# Altium footprint library PCB - SWITCHES - SPVS320100.PCBLIB: 1 footprints
Each footprint in its own frame and in the unit in brackets; x right, y up, seen from the top. Pads: shape width x height; smd on the part's side, far side on the other; paste and mask are expansions set on the pad; w line width, h text height; cw(c..) or ccw(c..) is an arc to the next point about the centre after c.
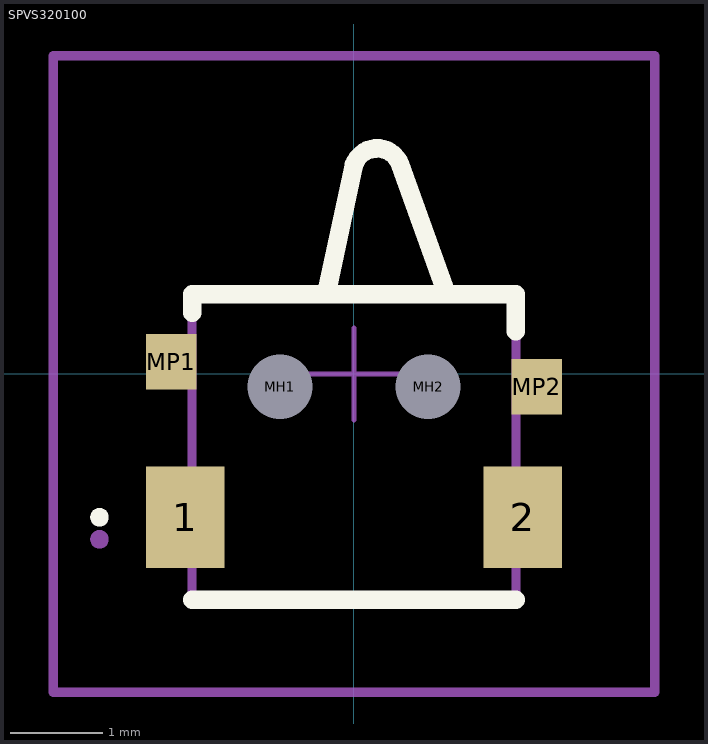
[diagram p0: the footprint, top view; thin cyan lines are the x and y axes]

## SPVS320100 [mm]
pads (6):
  rect 0.85x1.1 smd: 1(-1.825,-1.548) 2(1.825,-1.548)
  round 0.35 hole 0.7 unplated: MH1(-0.8,-0.138) MH2(0.8,-0.138)
  rect 0.55x0.6 smd: MP1(-1.975,0.132) MP2(1.975,-0.138)
Top Overlay:
  lines w0.1: -2.8,-1.548 cw(c-2.75,-1.548) -2.7,-1.548 cw(c-2.75,-1.548) -2.8,-1.548
  lines w0.2: -1.75,-2.438 1.75,-2.438 ; -1.75,0.662 -1.75,0.862 1.75,0.862 1.75,0.462 ; -0.3,0.862 0,2.262 cw(c0.25,2.173) 0.499,2.262 ; 0.5,2.262 1,0.862
Top Assembly:
  lines w0.1: -2.8,-1.786 cw(c-2.75,-1.786) -2.7,-1.786 cw(c-2.75,-1.786) -2.8,-1.786 ; -1.75,-2.438 -1.75,0.862 1.75,0.862 1.75,-2.438 -1.75,-2.438
Top Courtyard:
  lines w0.1: -0.3,0.862 0,2.262 cw(c0.25,2.173) 0.499,2.262 ; 0.5,2.262 1,0.862 ; -1.75,-2.438 -1.75,0.862 1.75,0.862 1.75,-2.438 -1.75,-2.438
Top Designator:
  text ".Designator" at -2.6,-3.5 h0.76
Top Component Center:
  lines w0.05: -0.5,0 0.5,0 ; 0,-0.5 0,0.5
Mechanical 20:
  lines w0.1: -3.25,-3.438 -3.25,3.438 3.25,3.438 3.25,-3.438 -3.25,-3.438